# Altium integrated library Analog_IC.IntLib: 31 symbols
Pins are listed as number, name and electrical type; pins without a type are passive.

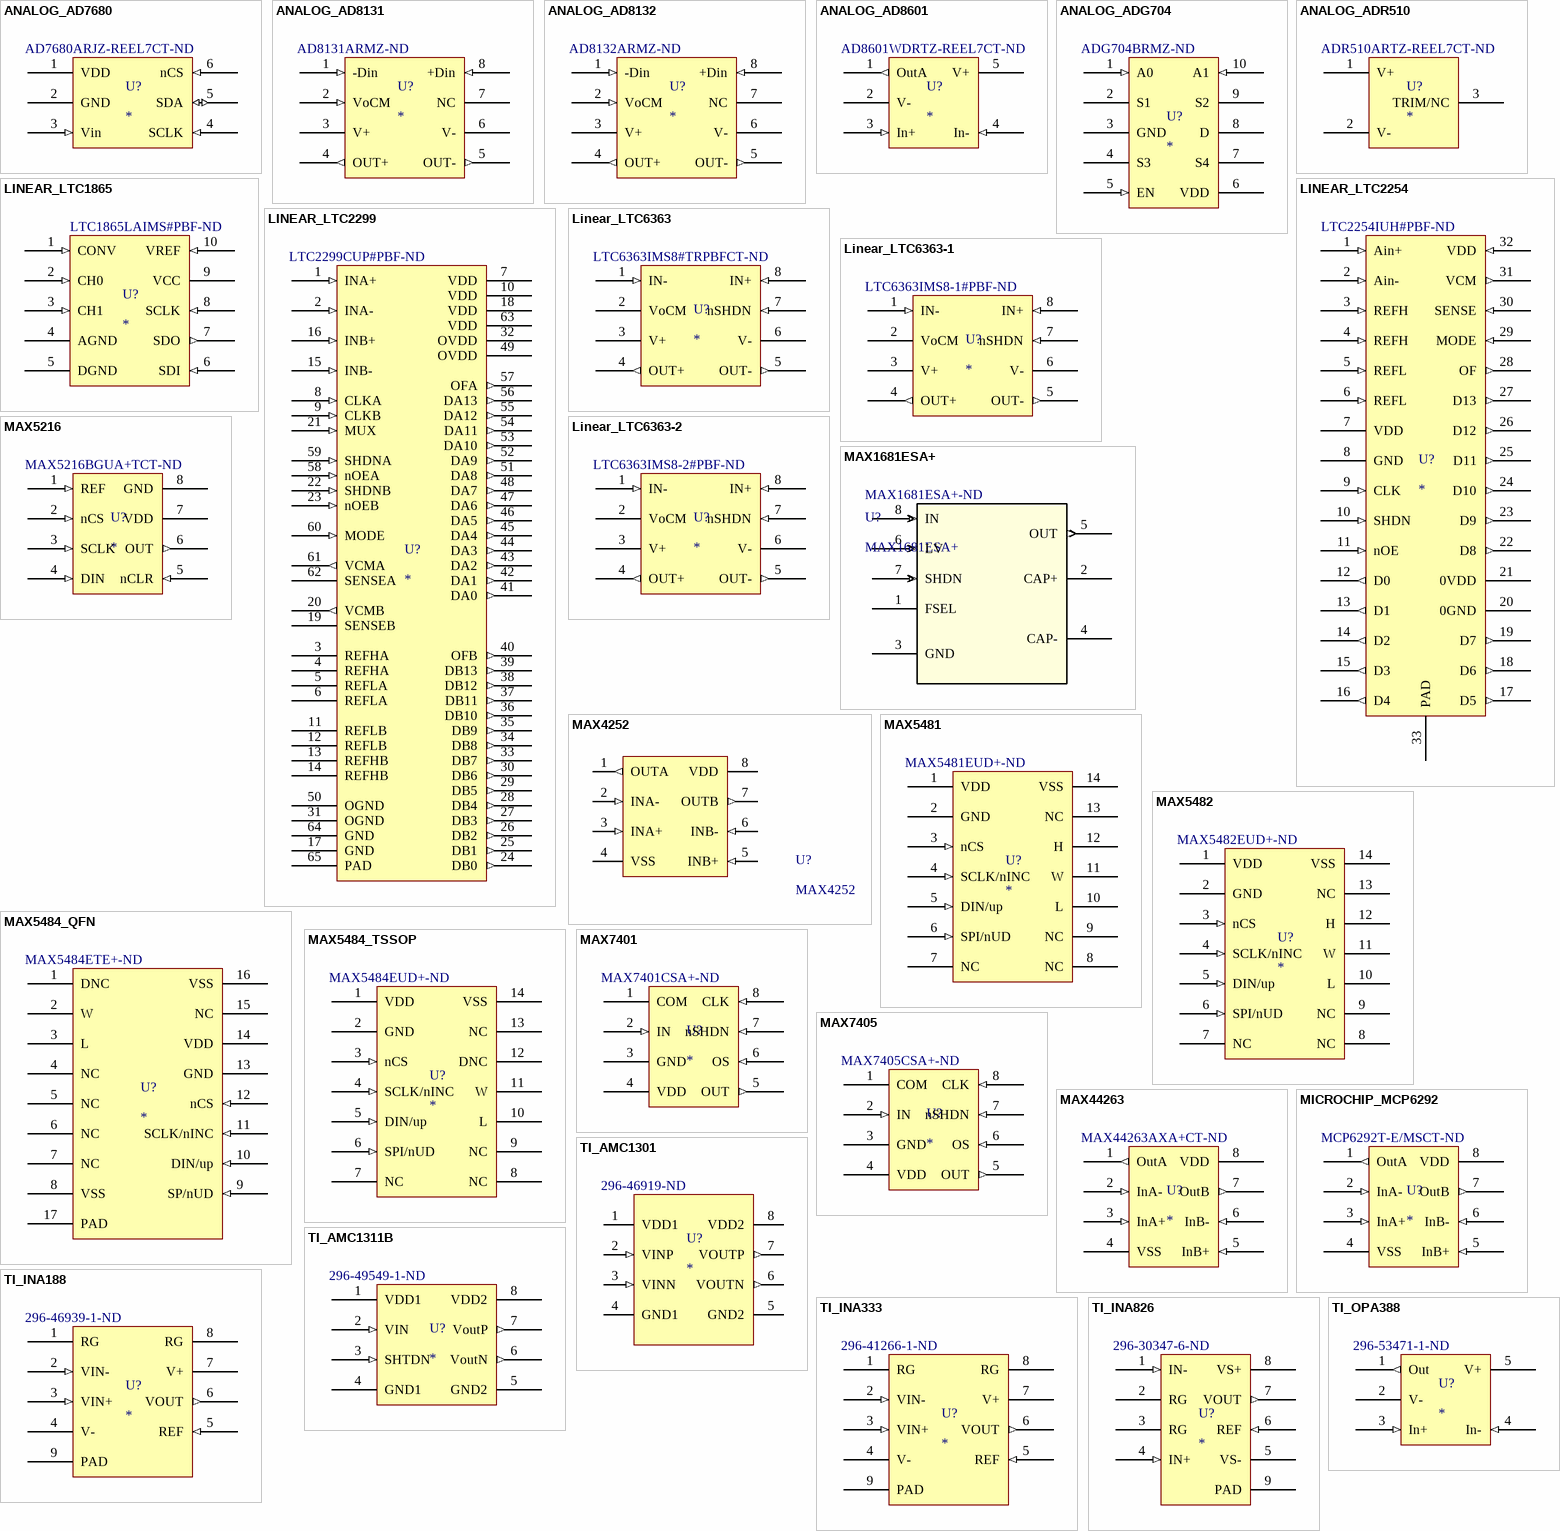
[diagram p0: symbols ANALOG_AD7680 to TI_OPA388]

## ANALOG_AD7680
designator U?  Supplier Part Number 1: AD7680ARJZ-REEL7CT-ND
16b_100ksps_ADC; Supplier 1: Digi-Key
footprint ANALOG_AD7680_SOT23-6 (SOT23, 6-Leads, Body 2.90x2.80mm, Pitch 0.95mm, IPC High Density)
pins: 1 VDD (power), 2 GND (power), 3 Vin (in), 4 SCLK (in), 5 SDA (io), 6 nCS (in)

## ANALOG_AD8131
designator U?  Supplier Part Number 1: AD8131ARMZ-ND
400MHz Differential Amplifier; Supplier 1: Digi-Key
footprint ANALOG_AD8131_MSOP8 (TSOP, 8-Leads, Body 3.00x3.00mm, Pitch 0.65mm, IPC High Density)
pins: 1 -Din (in), 2 VoCM (in), 3 V+ (power), 4 OUT+ (out), 5 OUT- (out), 6 V- (power), 7 NC, 8 +Din (in)

## ANALOG_AD8132
designator U?  Supplier Part Number 1: AD8132ARMZ-ND
350MHz Differential Amplifier; Supplier 1: Digi-Key
footprint ANALOG_AD8131_MSOP8 (TSOP, 8-Leads, Body 3.00x3.00mm, Pitch 0.65mm, IPC High Density)
pins: 1 -Din (in), 2 VoCM (in), 3 V+ (power), 4 OUT+ (out), 5 OUT- (out), 6 V- (power), 7 NC, 8 +Din (in)

## ANALOG_AD8601
designator U?  Supplier Part Number 1: AD8601WDRTZ-REEL7CT-ND
8MHz R-R Precision OPA; Supplier 1: Digi-Key
footprint ANALOG_AD8601_SOT23-5 (SOT23, 5-Leads, Body 2.90x2.80mm, Pitch 0.95mm, IPC High Density)
pins: 1 OutA (out), 2 V- (power), 3 In+ (in), 4 In- (in), 5 V+ (power)

## ANALOG_ADG704
designator U?  Supplier Part Number 1: ADG704BRMZ-ND
5V 4:1 A-MUX; Supplier 1: Digi-Key
footprint TI_TMUX1104_SOP10 (TSSOP, 10-Leads, Body 3.00x3.00mm, Pitch 0.50mm, IPC High Density)
pins: 1 A0 (in), 2 S1, 3 GND (power), 4 S3, 5 EN (in), 6 VDD (power), 7 S4, 8 D, 9 S2, 10 A1 (in)

## ANALOG_ADR510
designator U?  Supplier Part Number 1: ADR510ARTZ-REEL7CT-ND
1.0V Shunt Reference; Supplier 1: Digi-Key
footprint ANALOG_ADR510_SOT23-3 (SOT23, 3-Leads, Body 2.90x2.37mm, Pitch 0.95mm, IPC High Density)
pins: 1 V+, 2 V-, 3 TRIM/NC

## LINEAR_LTC1865
designator U?  Supplier Part Number 1: LTC1865LAIMS#PBF-ND
2x16b_250ksps_ADC; Supplier 1: Digikey
footprint LINEAR_LTC1865_MSOP10 (TSSOP, 10-Leads, Body 3.00x3.00mm, Pitch 0.50mm, IPC High Density)
pins: 1 CONV (in), 2 CH0 (in), 3 CH1 (in), 4 AGND (power), 5 DGND (power), 6 SDI (in), 7 SDO (out), 8 SCLK (in), 9 VCC (power), 10 VREF (in)

## LINEAR_LTC2254
designator U?  Supplier Part Number 1: LTC2254IUH#PBF-ND
14b_105Msps_ADC; Supplier 1: Digi-Key
footprint LINEAR_LTC2254_QFN32 (QFN, 32-Leads, Body 5.00x5.00mm, Pitch 0.50mm, Thermal Pad 3.45x3.45mm, IPC High Density)
pins: 1 Ain+ (in), 2 Ain- (in), 3 REFH (in), 4 REFH (in), 5 REFL (in), 6 REFL (in), 7 VDD (power), 8 GND (power), 9 CLK (in), 10 SHDN (in), 11 nOE (in), 12 D0 (out), 13 D1 (out), 14 D2 (out), 15 D3 (out), 16 D4 (out), 17 D5 (out), 18 D6 (out), 19 D7 (out), 20 0GND (power), 21 0VDD (power), 22 D8 (out), 23 D9 (out), 24 D10 (out), 25 D11 (out), 26 D12 (out), 27 D13 (out), 28 OF (out), 29 MODE (in), 30 SENSE (in), 31 VCM (out), 32 VDD (in), 33 PAD (power)

## LINEAR_LTC2299
designator U?  Supplier Part Number 1: LTC2299CUP#PBF-ND
DUAL 14b 80Msps ADC; Supplier 1: Digi-Key
footprint LINEAR_LTC2299_QFN64 (QFN, 64-Leads, Body 9.00x9.00mm, Pitch 0.50mm, Thermal Pad 7.15x7.15mm, IPC High Density)
pins: 1 INA+ (in), 2 INA- (in), 3 REFHA, 4 REFHA, 5 REFLA, 6 REFLA, 7 VDD (power), 8 CLKA (in), 9 CLKB (in), 10 VDD (power), 11 REFLB, 12 REFLB, 13 REFHB, 14 REFHB, 15 INB- (in), 16 INB+ (in), 17 GND (power), 18 VDD (power), 19 SENSEB, 20 VCMB (out), 21 MUX (in), 22 SHDNB (in), 23 nOEB (in), 24 DB0 (out), 25 DB1 (out), 26 DB2 (out), 27 DB3 (out), 28 DB4 (out), 29 DB5 (out), 30 DB6 (out), 31 OGND (power), 32 OVDD (power), 33 DB7 (out), 34 DB8 (out), 35 DB9 (out), 36 DB10 (out), 37 DB11 (out), 38 DB12 (out), 39 DB13 (out), 40 OFB (out), 41 DA0 (out), 42 DA1 (out), 43 DA2 (out), 44 DA3 (out), 45 DA4 (out), 46 DA5 (out), 47 DA6 (out), 48 DA7 (out), 49 OVDD (power), 50 OGND (power), 51 DA8 (out), 52 DA9 (out), 53 DA10 (out), 54 DA11 (out), 55 DA12 (out), 56 DA13 (out), 57 OFA (out), 58 nOEA (in), 59 SHDNA (in), 60 MODE (in), 61 VCMA (out), 62 SENSEA, 63 VDD (power), 64 GND (power), 65 PAD (power)

## Linear_LTC6363
designator U?  Supplier Part Number 1: LTC6363IMS8#TRPBFCT-ND
500MHz GBW Differential Amplifier; Supplier 1: Digi-Key
footprint LINEAR_LTC6363-1_SOP8 (TSOP, 8-Leads, Body 3.00x3.00mm, Pitch 0.65mm, IPC High Density)
pins: 1 IN- (in), 2 VoCM, 3 V+ (power), 4 OUT+ (out), 5 OUT- (out), 6 V- (power), 7 nSHDN (in), 8 IN+ (in)

## Linear_LTC6363-1
designator U?  Supplier Part Number 1: LTC6363IMS8-1#PBF-ND
35MHz 1v/v Differential Amplifier; Supplier 1: Digi-Key
footprint LINEAR_LTC6363-1_SOP8 (TSOP, 8-Leads, Body 3.00x3.00mm, Pitch 0.65mm, IPC High Density)
pins: 1 IN- (in), 2 VoCM, 3 V+ (power), 4 OUT+ (out), 5 OUT- (out), 6 V- (power), 7 nSHDN (in), 8 IN+ (in)

## Linear_LTC6363-2
designator U?  Supplier Part Number 1: LTC6363IMS8-2#PBF-ND
35MHz 2v/v Differential Amplifier; Supplier 1: Digi-Key
footprint LINEAR_LTC6363-1_SOP8 (TSOP, 8-Leads, Body 3.00x3.00mm, Pitch 0.65mm, IPC High Density)
pins: 1 IN- (in), 2 VoCM, 3 V+ (power), 4 OUT+ (out), 5 OUT- (out), 6 V- (power), 7 nSHDN (in), 8 IN+ (in)

## MAX1681ESA+
designator U?  Supplier Part Number 1: MAX1681ESA+-ND
Charge Pump Switching Regulator IC Positive or Negative Fixed -Vin, 2Vin 1 Output 125mA 8-SOIC (0.154", 3.90mm Width); Mfr_Name: Maxim Integrated Products; Copyright: Copyright (C) 2021 Ultra Librarian. All rights reserved.; Manufacturer_Part_Number: MAX1681ESA+; Digi-Key_Part_Number_1: MAX1681ESA+-CRL-ND; Digi-Key_Part_Number_2: MAX1681ESA+-ND; RefDes: RefDes; Type: DEV; Supplier 1: Digi-Key
footprint 21-0041B_8_MXM
pins: 1 FSEL, 2 CAP+, 3 GND (power), 4 CAP-, 5 OUT (out), 6 LV (in), 7 SHDN (in), 8 IN (in)

## MAX4252
designator U?
Dual 3Mhz R-R OPA; Manufacturer: Maxim; Manufacturer Part Number: MAX4252EUA+; Number of Circuits: 2; Input Bias Current: 1pA; Input Offset Voltage (Vos): 70uV; Operating Supply Current: 420uA; Output Current per Channel: 68mA; Min Supply Voltage: 2.4V; Max Supply Voltage: 5.5V; Min Dual Supply Voltage: 1.2V; Max Dual Supply Voltage: 2.75V; Voltage Gain: 116dB; Slew Rate: 0.3V/µs; Common Mode Rejection Ratio: 70dB; Nominal Supply Current: 400uA; Supplier 1: Digi-Key; Supplier Part Number 1: MAX4252EUA+-ND; RoHS: Yes; Category: Amplifiers - Op Amps, Buffer, Instrumentation; Stock 1: 4093; Pricing 1: 1=3.06000, 10=2.74500, 25=2.59520, 100=2.13380, 250=2.02672 (USD); Mount: Surface Mount; Case/Package: UMAX; Number of Pins: 8; Min Operating Temperature: -40°C; Max Operating Temperature: 85°C; Gain Bandwidth Product: 3MHz; Packaging: Rail/Tube; Number of Amplifiers: 2; Package Quantity: 50; Bandwidth: 3MHz; Operating Supply Voltage: 2.75V; Number of Channels: 2; Output Current: 68mA; Length: 3.05mm; Height: 0.95mm; Width: 3.05mm; Radiation Hardening: No; REACH SVHC: Unknown; ComponentLink1URL: https://datasheet.ciiva.com/26846/max4252eua-26846423.pdf?src-supplier=IIIC; ComponentLink1Description: https://datasheet.ciiva.com/26846/max4252eua-26846423.pdf?src-supplier=IIIC; ComponentLink2URL: https://datasheet.ciiva.com/8009/4498-8009337.pdf?src-supplier=Element14; ComponentLink2Description: https://datasheet.ciiva.com/8009/4498-8009337.pdf?src-supplier=Element14; ComponentLink3URL: https://datasheet.ciiva.com/2973/max4249-max4257-2973632.pdf?src-supplier=Avnet; ComponentLink3Description: https://datasheet.ciiva.com/2973/max4249-max4257-2973632.pdf?src-supplier=Avnet; ComponentLink4URL: https://datasheet.ciiva.com/1819/max4249-max4257-1819969.pdf?src-supplier=Digi-Key; ComponentLink4Description: https://datasheet.ciiva.com/1819/max4249-max4257-1819969.pdf?src-supplier=Digi-Key
footprint MAX4252_SOP8 (TSOP, 8-Leads, Body 3.00x3.00mm, Pitch 0.65mm, IPC High Density)
pins: 1 OUTA (out), 2 INA- (in), 3 INA+ (in), 4 VSS (power), 5 INB+ (in), 6 INB- (in), 7 OUTB (out), 8 VDD (power)

## MAX5216
designator U?  Supplier Part Number 1: MAX5216BGUA+TCT-ND
16b RR-DAC; Supplier 1: Digi-Key
footprint MAX5216_MSOP-8 (TSOP, 8-Leads, Body 3.00x3.00mm, Pitch 0.65mm, IPC High Density)
pins: 1 REF (in), 2 nCS (in), 3 SCLK (in), 4 DIN (in), 5 nCLR (in), 6 OUT (out), 7 VDD (power), 8 GND (power)

## MAX5481
designator U?  Supplier Part Number 1: MAX5481EUD+-ND
10k Digipot; Supplier 1: Digi-Key
footprint MAX5481_TSOP14 (TSOP, 14-Leads, Body 5.00x4.40mm, Pitch 0.65mm, IPC High Density)
pins: 1 VDD (power), 2 GND (power), 3 nCS (in), 4 SCLK/nINC (in), 5 DIN/up (in), 6 SPI/nUD (in), 7 NC, 8 NC, 9 NC, 10 L, 11 W, 12 H, 13 NC, 14 VSS (power)

## MAX5482
designator U?  Supplier Part Number 1: MAX5482EUD+-ND
50k Digipot; Supplier 1: Digi-Key
footprint MAX5481_TSOP14 (TSOP, 14-Leads, Body 5.00x4.40mm, Pitch 0.65mm, IPC High Density)
pins: 1 VDD (power), 2 GND (power), 3 nCS (in), 4 SCLK/nINC (in), 5 DIN/up (in), 6 SPI/nUD (in), 7 NC, 8 NC, 9 NC, 10 L, 11 W, 12 H, 13 NC, 14 VSS (power)

## MAX5484_QFN
designator U?  Supplier Part Number 1: MAX5484ETE+-ND
50K Digital Resistor; Supplier 1: Digi-Key
footprint MAX5484_QFN16 (QFN, 16-Leads, Body 3.00x3.00mm, Pitch 0.50mm, Thermal Pad 0.93x0.93mm, IPC High Density)
pins: 1 DNC, 2 W, 3 L, 4 NC, 5 NC, 6 NC, 7 NC, 8 VSS (power), 9 SP/nUD (in), 10 DIN/up (in), 11 SCLK/nINC (in), 12 nCS (in), 13 GND (power), 14 VDD (power), 15 NC, 16 VSS (power), 17 PAD (power)

## MAX5484_TSSOP
designator U?  Supplier Part Number 1: MAX5484EUD+-ND
50k Digital Resistor; Supplier 1: Digi-Key
footprint MAX5481_TSOP14 (TSOP, 14-Leads, Body 5.00x4.40mm, Pitch 0.65mm, IPC High Density)
pins: 1 VDD (power), 2 GND (power), 3 nCS (in), 4 SCLK/nINC (in), 5 DIN/up (in), 6 SPI/nUD (in), 7 NC, 8 NC, 9 NC, 10 L, 11 W, 12 DNC, 13 NC, 14 VSS (power)

## MAX7401
designator U?  Supplier Part Number 1: MAX7401CSA+-ND
Bessel LPF, ADJ 5v0; Supplier 1: Digi-Key
footprint MAX7405_SOIC-8 (SOIC, 8-Leads, Body 4.90x3.90mm, Pitch 1.27mm, IPC High Density)
pins: 1 COM, 2 IN (in), 3 GND (power), 4 VDD (power), 5 OUT (out), 6 OS (in), 7 nSHDN (in), 8 CLK (in)

## MAX7405
designator U?  Supplier Part Number 1: MAX7405CSA+-ND
Bessel LPF, ADJ 3.3v; Supplier 1: Digi-Key
footprint MAX7405_SOIC-8 (SOIC, 8-Leads, Body 4.90x3.90mm, Pitch 1.27mm, IPC High Density)
pins: 1 COM, 2 IN (in), 3 GND (power), 4 VDD (power), 5 OUT (out), 6 OS (in), 7 nSHDN (in), 8 CLK (in)

## MAX44263
designator U?  Supplier Part Number 1: MAX44263AXA+CT-ND
Dual 15MHz Rail-rail Opa; Supplier 1: Digikey
footprint MAX44263 SC70-8 (TSSOP, 8-Leads, Body 2.00x1.25mm, Pitch 0.50mm, IPC High Density)
pins: 1 OutA (out), 2 InA- (in), 3 InA+ (in), 4 VSS (power), 5 InB+ (in), 6 InB- (in), 7 OutB (out), 8 VDD (power)

## MICROCHIP_MCP6292
designator U?  Supplier Part Number 1: MCP6292T-E/MSCT-ND
Dual 10MHz R-R OPA; Supplier 1: Digi-Key
footprint MICROCHIP_MCP6292_MSOP-8 (TSOP, 8-Leads, Body 3.00x3.00mm, Pitch 0.65mm, IPC High Density)
pins: 1 OutA (out), 2 InA- (in), 3 InA+ (in), 4 VSS (power), 5 InB+ (in), 6 InB- (in), 7 OutB (out), 8 VDD (power)

## TI_AMC1301
designator U?  Supplier Part Number 1: 296-46919-ND
Isolation Amplifier, 200kHz, 8.2V/v; Manufacturer: Texas Instruments; Manufacturer Part Number: AMC1301QDWVQ1; Number of Circuits: 1; Gain Bandwidth Product: 1MHz; Input Bias Current: 60uA; Input Offset Voltage (Vos): 50uV; Operating Supply Current: 5.9mA; Output Current per Channel: 13mA; RoHS: No; Category: Amplifiers - Op Amps, Buffer, Instrumentation; Stock 1: 445; Pricing 1: 1=8.38000, 10=7.57200, 25=7.22000, 100=5.98740, 250=5.45912, 500=5.10690, 1000=4.68426 (USD); Mount: Surface Mount; Case/Package: SOIC; Min Operating Temperature: -40°C; Max Operating Temperature: 125°C; Packaging: Rail/Tube; ComponentLink1URL: http://www.ti.com/lit/ds/symlink/amc1301-q1.pdf?src-supplier=Digi-Key; ComponentLink1Description: http://www.ti.com/lit/ds/symlink/amc1301-q1.pdf?src-supplier=Digi-Key; ComponentLink2URL: http://www.ti.com/lit/ds/symlink/amc1301-q1.pdf?src-supplier=Farnell; ComponentLink2Description: http://www.ti.com/lit/ds/symlink/amc1301-q1.pdf?src-supplier=Farnell; Supplier 1: Digi-Key
footprint TI_AMC1301_SOIC8 (SOIC, 8-Leads, Body 4.43x7.50mm, Pitch 1.27mm, IPC High Density)
pins: 1 VDD1 (power), 2 VINP (in), 3 VINN (in), 4 GND1 (power), 5 GND2 (power), 6 VOUTN (out), 7 VOUTP (out), 8 VDD2 (power)

## TI_AMC1311B
designator U?  Supplier Part Number 1: 296-49549-1-ND
Isolation Amplifier, 275KHz, 1V/v; Supplier 1: Digi-Key
footprint TI_AMC1311B_SOIC-8 (SOIC, 8-Leads, Body 5.85x7.50mm, Pitch 1.27mm, IPC High Density)
pins: 1 VDD1 (power), 2 VIN (in), 3 SHTDN (in), 4 GND1 (power), 5 GND2 (power), 6 VoutN (out), 7 VoutP (out), 8 VDD2 (power)

## TI_INA188
designator U?  Supplier Part Number 1: 296-46939-1-ND
600KHz R-R LN-ZeroDrift INA; Supplier 1: Digi-Key
footprint TI_INA188_PSON8 (SON, 8-Leads, Body 4.00x4.00mm, Pitch 0.80mm, Thermal Pad 3.00x2.49mm, IPC High Density)
pins: 1 RG, 2 VIN- (in), 3 VIN+ (in), 4 V- (power), 5 REF (in), 6 VOUT (out), 7 V+ (power), 8 RG, 9 PAD (power)

## TI_INA333
designator U?  Supplier Part Number 1: 296-41266-1-ND
150KHz R-R LN-ZeroDrift INA; Supplier 1: Digi-Key
footprint TI_INA333_PSON8 (SON, 8-Leads, Body 3.00x3.00mm, Pitch 0.50mm, Thermal Pad 2.40x1.29mm, IPC High Density)
pins: 1 RG, 2 VIN- (in), 3 VIN+ (in), 4 V- (power), 5 REF (in), 6 VOUT (out), 7 V+ (power), 8 RG, 9 PAD (power)

## TI_INA826
designator U?  Supplier Part Number 1: 296-30347-6-ND
1MHz R-R INA; Supplier 1: Digi-Key
footprint TI_INA826_PSON8 (SON, 8-Leads, Body 3.00x3.00mm, Pitch 0.50mm, Thermal Pad 2.06x2.24mm, IPC High Density)
pins: 1 IN- (in), 2 RG, 3 RG, 4 IN+ (in), 5 VS- (power), 6 REF (in), 7 VOUT (out), 8 VS+ (power), 9 PAD (power)

## TI_OPA388
designator U?  Supplier Part Number 1: 296-53471-1-ND
10MHz R-R LN-ZeroDrift OPA; Supplier 1: Digi-Key
footprint TI_OPA388_SOT23-5 (SOT23, 5-Leads, Body 2.90x2.80mm, Pitch 0.95mm, IPC High Density)
pins: 1 Out (out), 2 V- (power), 3 In+ (in), 4 In- (in), 5 V+ (power)

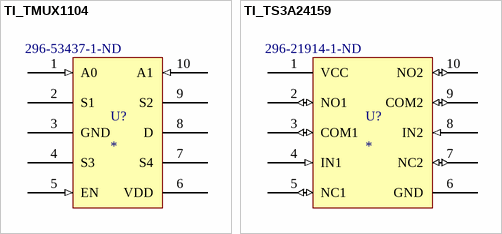
[diagram p1: symbols TI_TMUX1104 to TI_TS3A24159]

## TI_TMUX1104
designator U?  Supplier Part Number 1: 296-53437-1-ND
5V 4:1 A-MUX; Supplier 1: Digi-Key
footprint TI_TMUX1104_SOP10 (TSSOP, 10-Leads, Body 3.00x3.00mm, Pitch 0.50mm, IPC High Density)
pins: 1 A0 (in), 2 S1, 3 GND (power), 4 S3, 5 EN (in), 6 VDD (power), 7 S4, 8 D, 9 S2, 10 A1 (in)

## TI_TS3A24159
designator U?  Supplier Part Number 1: 296-21914-1-ND
Dual 3.3v 2:1 A-MUX; Supplier 1: Digi-Key
footprint TI_TS3A24159_SON-10 (SON, 10-Leads, Body 3.00x3.00mm, Pitch 0.50mm, Thermal Pad 2.40x1.49mm, IPC High Density)
pins: 1 VCC (power), 2 NO1 (io), 3 COM1 (io), 4 IN1 (in), 5 NC1 (io), 6 GND (power), 7 NC2 (io), 8 IN2 (in), 9 COM2 (io), 10 NO2 (io)